# Altium schematic symbol library MOTOR.SchLib: 1 symbol
Pins are listed as number, name and electrical type; pins without a type are passive.

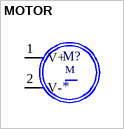
[diagram p0: symbol MOTOR]

## MOTOR
designator M?
pins: 1 V+ (power), 2 V- (power)
text: M